# Altium schematic symbol library ICs_LDO.SchLib: 34 symbols
Pins are listed as number, name and electrical type; pins without a type are passive.

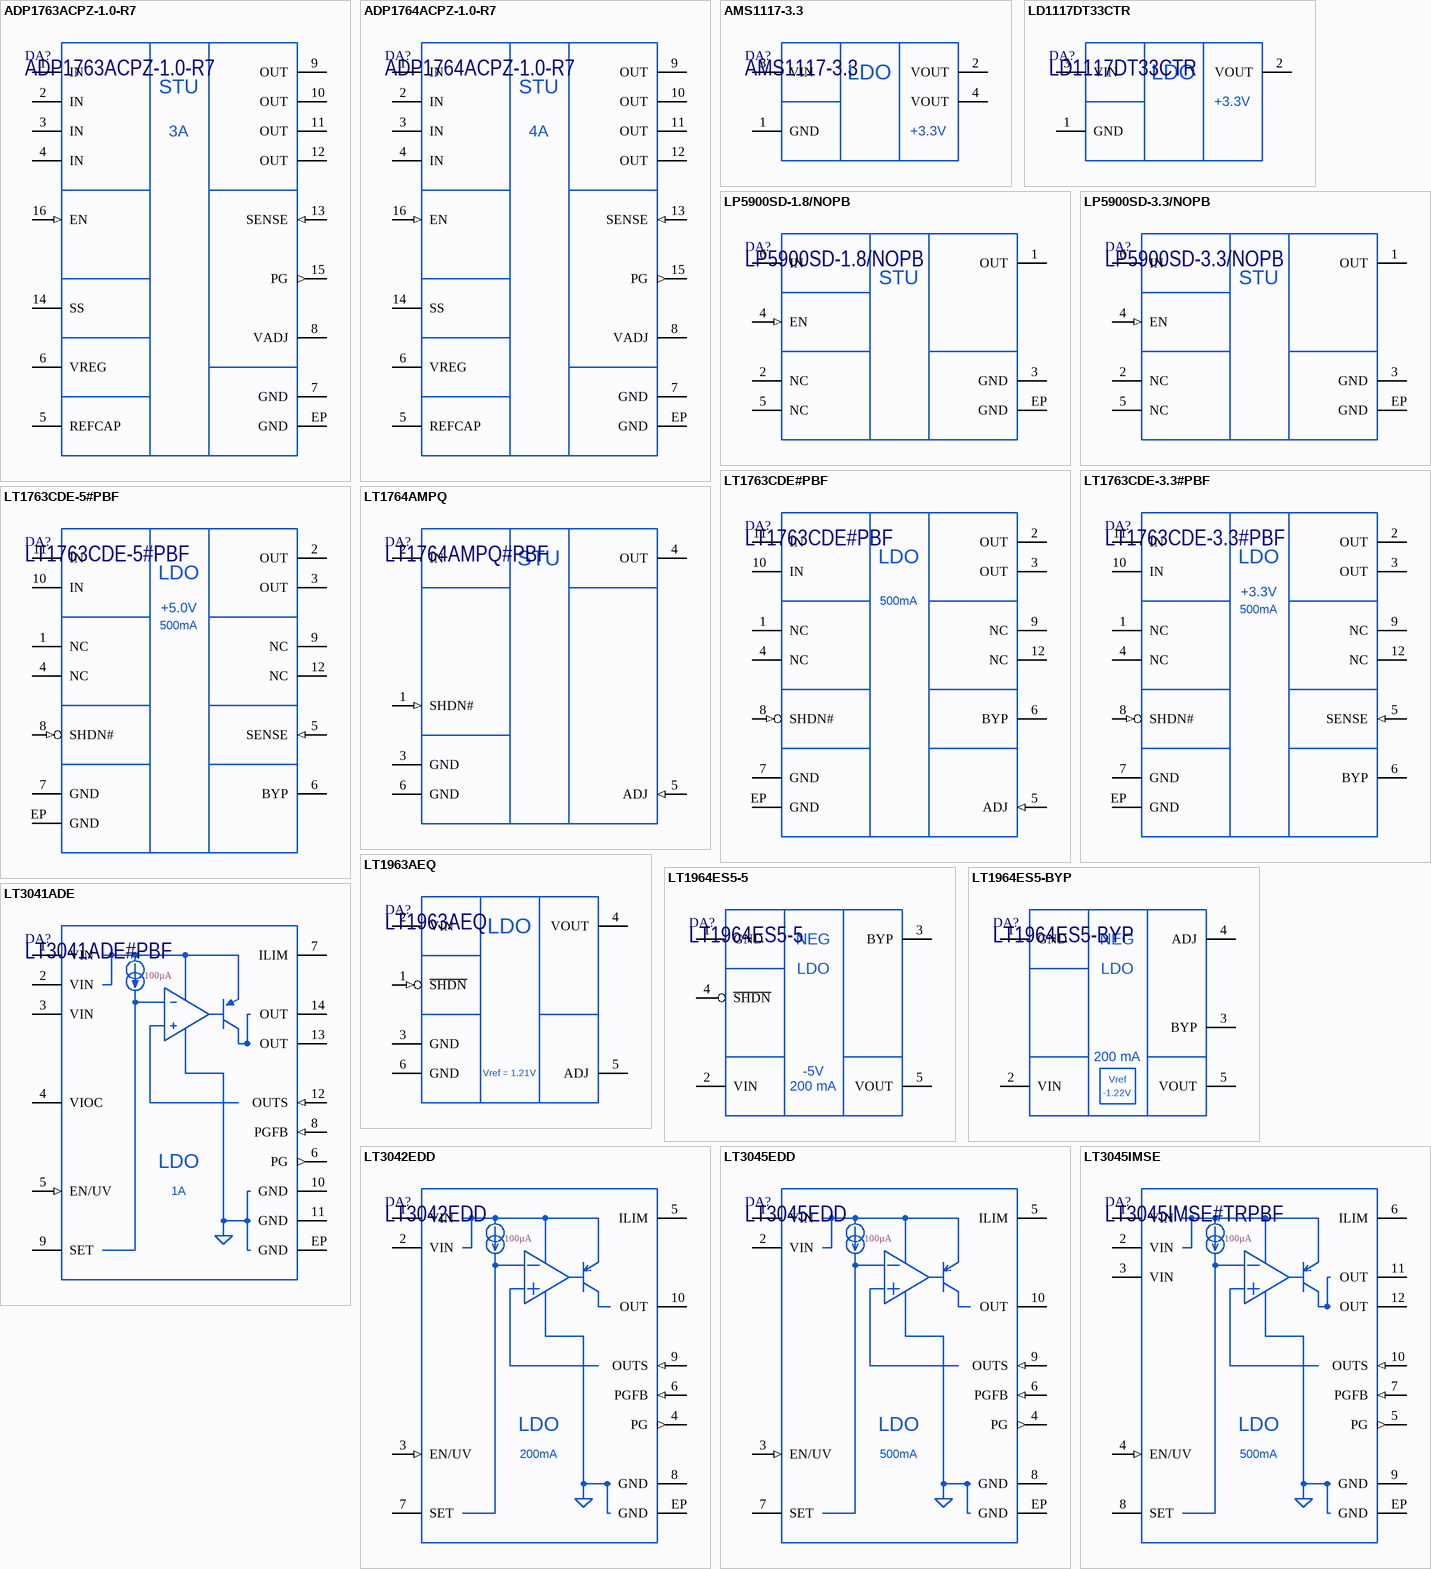
[diagram p0: symbols ADP1763ACPZ-1.0-R7 to LT3045IMSE]

## ADP1763ACPZ-1.0-R7
designator DA?
3 A, Low VIN, Low Noise, CMOS Linear Regulator; Manufacturer: Analog Devices; Marking: LS2; ItemType: IC; ItemSubType: LDO; Alternative1: ADP1763WACPZ-1.0-R7; Package: QFN-16; PartNumber: ADP1763ACPZ-1.0-R7; AltManufacturer1: Analog Devices; Mounting: SMD
footprint LFCSP-16(CP-16-22) (QFN, 16-Leads, Body 3x3mm, Pitch 0.50mm, Thermal Pad 1.50x1.50mm. Compliant to JEDEC standards MO-220-WEED-6)
pins: 1 IN (power), 2 IN (power), 3 IN (power), 4 IN (power), 5 REFCAP, 6 VREG, 7 GND, 8 VADJ, 9 OUT (power), 10 OUT (power), 11 OUT (power), 12 OUT (power), 13 SENSE (in), 14 SS, 15 PG (out), 16 EN (in), EP GND
text: STU; 3A

## ADP1764ACPZ-1.0-R7
designator DA?
4 A, Low VIN, Low Noise, CMOS Linear Regulator; Manufacturer: Analog Devices; Marking: LUZ; ItemType: IC; ItemSubType: LDO; Package: QFN-16; PartNumber: ADP1764ACPZ-1.0-R7; Mounting: SMD
footprint LFCSP-16(CP-16-48) (QFN, 16-Leads, Body 3x3mm, Pitch 0.50mm, Thermal Pad 1.70x1.70mm. Compliant to JEDEC standards MO-220-WEED-4)
pins: 1 IN (power), 2 IN (power), 3 IN (power), 4 IN (power), 5 REFCAP, 6 VREG, 7 GND, 8 VADJ, 9 OUT (power), 10 OUT (power), 11 OUT (power), 12 OUT (power), 13 SENSE (in), 14 SS, 15 PG (out), 16 EN (in), EP GND
text: STU; 4A

## AMS1117-3.3
designator DA?
800mA, LDO Regulator; Manufacturer: Advanced Monolithic Systems; ItemType: IC; PartNumber: AMS1117-3.3; Package: SOT-223; Marking: AMS1117; ItemSubType: LDO; Mounting: SMD
footprint SOT2234_TO261AA (SOT223, 4-Leads, Body 6.50x7.00mm (avg), Pitch 2.30mm)
pins: 1 GND, 2 VOUT (power), 3 VIN (power), 4 VOUT (power)
text: +3.3V

## LD1117DT33CTR
designator DA?
800mA, LDO Regulator; Manufacturer: STMicroelectronics; Marking: L1117; ItemType: IC; PartNumber: LD1117DT33CTR; Package: TO252AA; ItemSubType: LDO; Mounting: SMD
footprint DPAK_TO252AA (D-PAK, 3-Pads, Body 6.15x6.66mm (max))
pins: 1 GND, 2 VOUT (power), 3 VIN (power)
text: +3.3V

## LP5900SD-1.8/NOPB
designator DA?
150-mA Ultra-Low-Noise LDO for RF and Analog Circuits; Manufacturer: Texas Instruments; Marking: L17; ItemType: IC; Package: WSON-6; PartNumber: LP5900SD-1.8/NOPB; ItemSubType: LDO; Mounting: SMD
footprint WSON6_NGF0006A (WSON-6, 2.5mm x 2.2mm, TI case GF0006A)
pins: 1 OUT, 2 NC (hiz), 3 GND, 4 EN (in), 5 NC (hiz), 6 IN, EP GND
text: STU

## LP5900SD-3.3/NOPB
designator DA?
150-mA Ultra-Low-Noise LDO for RF and Analog Circuits; Manufacturer: Texas Instruments; Marking: L16; ItemType: IC; Package: WSON-6; PartNumber: LP5900SD-3.3/NOPB; ItemSubType: LDO; Mounting: SMD
footprint WSON6_NGF0006A (WSON-6, 2.5mm x 2.2mm, TI case GF0006A)
pins: 1 OUT, 2 NC (hiz), 3 GND, 4 EN (in), 5 NC (hiz), 6 IN, EP GND
text: STU

## LT1763CDE#PBF
designator DA?
500mA, Low Noise, LDO Micropower Regulators; Manufacturer: Analog Devices; Marking: 1763; ItemType: IC; Alternative1: LT1763CDE#TRPBF; Package: DFN-12; PartNumber: LT1763CDE#PBF; ItemSubType: LDO; AltManufacturer1: Analog Devices; Mounting: SMD
footprint DFN12_LT1763
pins: 1 NC (hiz), 2 OUT (power), 3 OUT (power), 4 NC (hiz), 5 ADJ (in), 6 BYP, 7 GND, 8 SHDN# (in), 9 NC (hiz), 10 IN (power), 11 IN (power), 12 NC (hiz), EP GND
text: 500mA

## LT1763CDE-3.3#PBF
designator DA?
500mA, Low Noise, LDO Micropower Regulators; Manufacturer: Analog Devices; Marking: 76333; ItemType: IC; Alternative1: LT1763CDE-3.3#TRPBF; Package: DFN-12; PartNumber: LT1763CDE-3.3#PBF; ItemSubType: LDO; AltManufacturer1: Analog Devices; Mounting: SMD
footprint DFN12_LT1763
pins: 1 NC (hiz), 2 OUT (power), 3 OUT (power), 4 NC (hiz), 5 SENSE (in), 6 BYP, 7 GND, 8 SHDN# (in), 9 NC (hiz), 10 IN (power), 11 IN (power), 12 NC (hiz), EP GND
text: +3.3V; 500mA

## LT1763CDE-5#PBF
designator DA?
500mA, Low Noise, LDO Micropower Regulators; Manufacturer: Analog Devices; Marking: 17635; ItemType: IC; Alternative1: LT1763CDE-5#TRPBF; Package: DFN-12; PartNumber: LT1763CDE-5#PBF; ItemSubType: LDO; AltManufacturer1: Analog Devices; Mounting: SMD
footprint DFN12_LT1763
pins: 1 NC (hiz), 2 OUT (power), 3 OUT (power), 4 NC (hiz), 5 SENSE (in), 6 BYP, 7 GND, 8 SHDN# (in), 9 NC (hiz), 10 IN (power), 11 IN (power), 12 NC (hiz), EP GND
text: +5.0V; 500mA

## LT1764AMPQ
designator DA?, comment LT1764AMPQ#PBF
3A, Fast Transient Response, Low Noise, LDO Regulators; Manufacturer: Analog Devices; ItemType: IC; PartNumber: LT1764AMPQ#PBF; Package: D2PAK5; ItemSubType: LDO; Mounting: SMD
footprint D2PAK5_TO263BA (D2-PAK, 6-Pads, Body 7.80x8.61mm (max))
pins: 1 SHDN# (in), 2 IN (power), 3 GND, 4 OUT (power), 5 ADJ (in), 6 GND
text: STU

## LT1963AEQ
designator DA?
1.5A, Low Noise, Fast Transient Response LDO Regulators; Manufacturer: Analog Devices; ItemType: IC; PartNumber: LT1963AEQ; Package: D2PAK5; Marking: LT1963AEQ; ItemSubType: LDO; Mounting: SMD
footprint D2PAK5_TO263BA (D2-PAK, 6-Pads, Body 7.80x8.61mm (max))
pins: 1 ~{SHDN} (in), 2 VIN (power), 3 GND, 4 VOUT (power), 5 ADJ, 6 GND
text: Vref = 1.21V

## LT1964ES5-5
designator DA?
200mA, Low Noise, Low Dropout Negative Micropower Regulator; Manufacturer: Analog Devices; Marking: LTVZ; ItemType: IC; ItemSubType: LDO; PartNumber: LT1964ES5-5; Package: SOT23-5; Mounting: SMD
footprint SOT235_JEDEC_MO178AA (SOT23, 5-Leads, Body 1.60x2.90mm, Pitch 0.95mm)
pins: 1 GND, 2 VIN (power), 3 BYP, 4 ~{SHDN}, 5 VOUT (power)
text: NEG; -5V; 200 mA

## LT1964ES5-BYP
designator DA?
200mA, Low Noise, Low Dropout Negative Micropower Regulator; Manufacturer: Analog Devices; Marking: LTVY; ItemType: IC; ItemSubType: LDO; PartNumber: LT1964ES5-BYP; Package: SOT23-5; Mounting: SMD
footprint SOT235_JEDEC_MO178AA (SOT23, 5-Leads, Body 1.60x2.90mm, Pitch 0.95mm)
pins: 1 GND, 2 VIN (power), 3 BYP, 4 ADJ, 5 VOUT (power)
text: NEG; 200 mA; -1.22V; Vref

## LT3041ADE
designator DA?, comment LT3041ADE#PBF
20 V, 1 A, Ultra-Low Noise, Ultra-High PSRR Linear Regulator with VIOC Control; Manufacturer: Analog Devices; Marking: 3041; ItemType: IC; ItemSubType: LDO; Package: DFN-14; PartNumber: LT3041ADE#PBF; Mounting: SMD
footprint DFN14_LT3041 (Power DFN 3mm x 4mm, 0.5mm pitch)
pins: 1 VIN (power), 2 VIN (power), 3 VIN (power), 4 VIOC, 5 EN/UV (in), 6 PG (out), 7 ILIM, 8 PGFB (in), 9 SET, 10 GND, 11 GND, 12 OUTS (in), 13 OUT (power), 14 OUT (power), EP GND
text: 100µA; 1A

## LT3042EDD
designator DA?
20V, 200mA, Ultralow Noise, Ultrahigh PSRR Linear Regulator; Manufacturer: Analog Devices; Marking: LGSJ; ItemType: IC; ItemSubType: LDO; Package: DFN-10; PartNumber: LT3042EDD; Mounting: SMD
footprint DFN10_LT3042 (Power DFN 3mm x 3mm, 0.5mm pitch. Reference LTC DWG # 05-08-1699 Rev C)
pins: 1 VIN (power), 2 VIN (power), 3 EN/UV (in), 4 PG (out), 5 ILIM, 6 PGFB (in), 7 SET, 8 GND, 9 OUTS (in), 10 OUT (power), EP GND
text: 100µA; 200mA

## LT3045EDD
designator DA?
20V, 500mA, Ultralow Noise, Ultrahigh PSRR Linear Regulator; Manufacturer: Analog Devices; Marking: LGYP; ItemType: IC; ItemSubType: LDO; Package: DFN-10; PartNumber: LT3045EDD; Mounting: SMD
footprint DFN10_LT3045 (Power DFN 3mm x 3mm, 0.5mm pitch)
pins: 1 VIN (power), 2 VIN (power), 3 EN/UV (in), 4 PG (out), 5 ILIM, 6 PGFB (in), 7 SET, 8 GND, 9 OUTS (in), 10 OUT (power), EP GND
text: 100µA; 500mA

## LT3045IMSE
designator DA?, comment LT3045IMSE#TRPBF
20V, 500mA, Ultralow Noise, Ultrahigh PSRR Linear Regulator; Manufacturer: Analog Devices; Marking: 3045; ItemType: IC; ItemSubType: LDO; Package: MSOP-12; PartNumber: LT3045IMSE#TRPBF; Mounting: SMD
footprint MSOP12_LT3045 (MSOP, 12-Leads, Body 3.00x4.00mm, Exposed Pad 1.651x2.845mm, Pitch 0.65mm. Reference LTC DWG # 05-08-1666 Rev G)
pins: 1 VIN (power), 2 VIN (power), 3 VIN (power), 4 EN/UV (in), 5 PG (out), 6 ILIM, 7 PGFB (in), 8 SET, 9 GND, 10 OUTS (in), 11 OUT (power), 12 OUT (power), EP GND
text: 100µA; 500mA

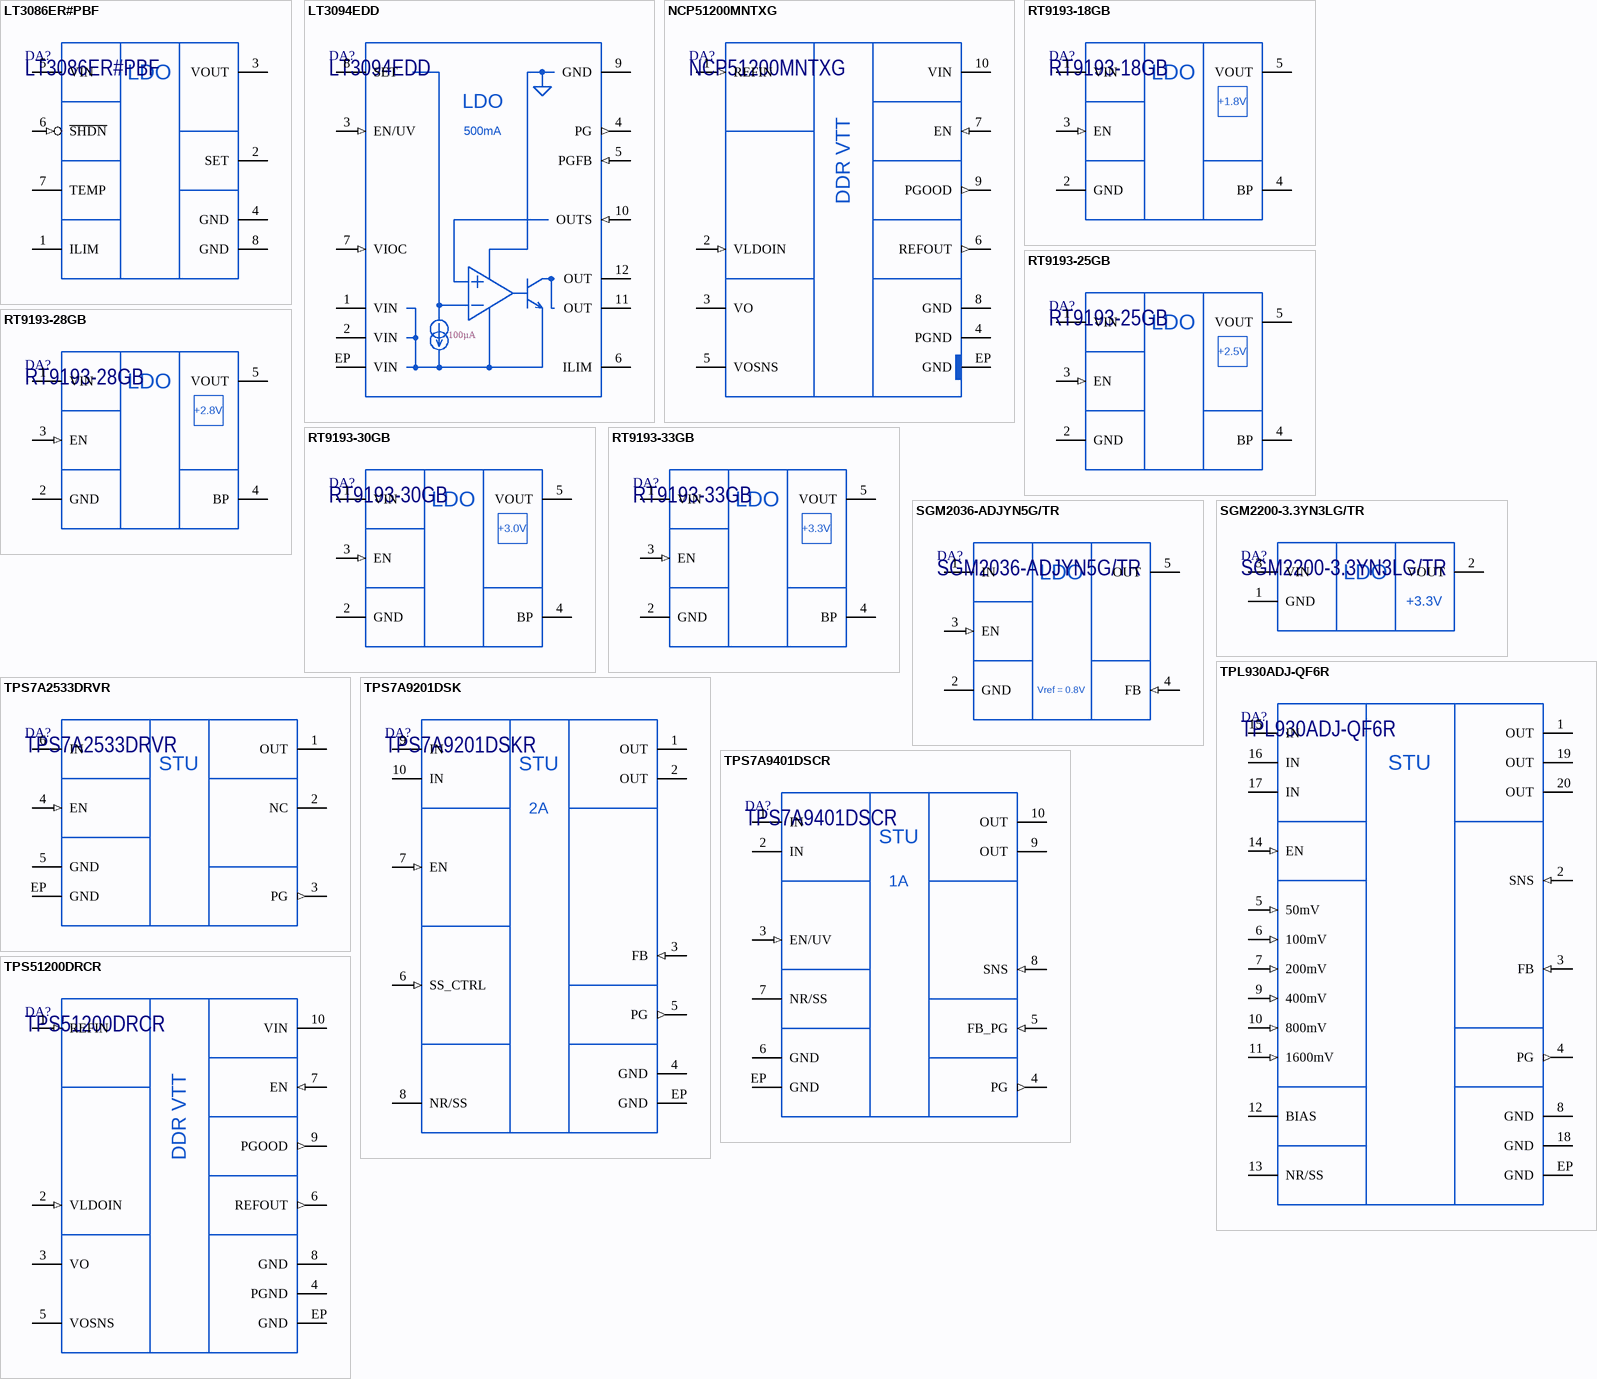
[diagram p1: symbols LT3086ER#PBF to TPS51200DRCR]

## LT3086ER#PBF
designator DA?
40V, 2.1A Low Dropout Adjustable Linear Regulator with Monitoring and Cable Drop Compensation; Manufacturer: Analog Devices; Marking: LT3086R; ItemType: IC; ItemSubType: LDO; PartNumber: LT3086ER#PBF; Package: D2PAK7; Mounting: SMD
footprint D2PAK7_TO263CA (D2-PAK, 8-Pads, Body 7.80x8.61mm (max))
pins: 1 ILIM, 2 SET, 3 VOUT (power), 4 GND, 5 VIN (power), 6 ~{SHDN} (in), 7 TEMP, 8 GND

## LT3094EDD
designator DA?
–20V, 500mA, Ultralow Noise, Ultrahigh PSRR Negative Linear Regulator; Manufacturer: Analog Devices; Marking: LHCC; ItemType: IC; ItemSubType: LDO; Package: DFN-12; PartNumber: LT3094EDD; Mounting: SMD
footprint DFN12_LT3094 (Power DFN 3mm x 3mm, 0.45mm pitch)
pins: 1 VIN (power), 2 VIN (power), 3 EN/UV (in), 4 PG (out), 5 PGFB (in), 6 ILIM, 7 VIOC (in), 8 SET, 9 GND, 10 OUTS (in), 11 OUT (power), 12 OUT (power), EP VIN (power)
text: 500mA; 100µA

## NCP51200MNTXG
designator DA?
Linear Voltage Regulator 3A for DDR1, DDR2, DDR3, LPDDR3, DDR4 VTT Termination; Manufacturer: ON Semiconductor; AltManufacturer1: Texas Instruments; Marking: 51200; ItemType: IC; ItemSubType: DDR Termination Regulator; Alternative1: TPS51200DRCT; Package: DFN-10; PartNumber: NCP51200MNTXG; Mounting: SMD
footprint DFN10_NCP51200 (DFN10, 3mm x 3mm)
pins: 1 REFIN (in), 2 VLDOIN (in), 3 VO (power), 4 PGND, 5 VOSNS (power), 6 REFOUT (out), 7 EN (in), 8 GND, 9 PGOOD (out), 10 VIN (power), EP GND
text: DDR VTT

## RT9193-18GB
designator DA?
300mA, Ultra-Low Noise, Ultra-Fast CMOS LDO Regulator; Manufacturer: Richtek; Marking: DC=xx; ItemType: IC; PartNumber: RT9193-18GB; Package: SOT23-5; ItemSubType: LDO; Mounting: SMD
footprint SOT235_JEDEC_MO178AA (SOT23, 5-Leads, Body 1.60x2.90mm, Pitch 0.95mm)
pins: 1 VIN (power), 2 GND, 3 EN (in), 4 BP, 5 VOUT (power)
text: +1.8V

## RT9193-25GB
designator DA?
300mA, Ultra-Low Noise, Ultra-Fast CMOS LDO Regulator; Manufacturer: Richtek; Marking: DH=xx; ItemType: IC; PartNumber: RT9193-25GB; Package: SOT23-5; ItemSubType: LDO; Mounting: SMD
footprint SOT235_JEDEC_MO178AA (SOT23, 5-Leads, Body 1.60x2.90mm, Pitch 0.95mm)
pins: 1 VIN (power), 2 GND, 3 EN (in), 4 BP, 5 VOUT (power)
text: +2.5V

## RT9193-28GB
designator DA?
300mA, Ultra-Low Noise, Ultra-Fast CMOS LDO Regulator; Manufacturer: Richtek; Marking: DJ=xx; ItemType: IC; PartNumber: RT9193-28GB; Package: SOT23-5; ItemSubType: LDO; Mounting: SMD
footprint SOT235_JEDEC_MO178AA (SOT23, 5-Leads, Body 1.60x2.90mm, Pitch 0.95mm)
pins: 1 VIN (power), 2 GND, 3 EN (in), 4 BP, 5 VOUT (power)
text: +2.8V

## RT9193-30GB
designator DA?
300mA, Ultra-Low Noise, Ultra-Fast CMOS LDO Regulator; Manufacturer: Richtek; Marking: DK=xx; ItemType: IC; PartNumber: RT9193-30GB; Package: SOT23-5; ItemSubType: LDO; Mounting: SMD
footprint SOT235_JEDEC_MO178AA (SOT23, 5-Leads, Body 1.60x2.90mm, Pitch 0.95mm)
pins: 1 VIN (power), 2 GND, 3 EN (in), 4 BP, 5 VOUT (power)
text: +3.0V

## RT9193-33GB
designator DA?
300mA, Ultra-Low Noise, Ultra-Fast CMOS LDO Regulator; Manufacturer: Richtek; Marking: DE=xx; ItemType: IC; PartNumber: RT9193-33GB; Package: SOT23-5; ItemSubType: LDO; Mounting: SMD
footprint SOT235_JEDEC_MO178AA (SOT23, 5-Leads, Body 1.60x2.90mm, Pitch 0.95mm)
pins: 1 VIN (power), 2 GND, 3 EN (in), 4 BP, 5 VOUT (power)
text: +3.3V

## SGM2036-ADJYN5G/TR
designator DA?
300mA, Low Power RF Linear Regulator; Manufacturer: SGMicro; Marking: SQ7XX; ItemType: IC; ItemSubType: LDO; PartNumber: SGM2036-ADJYN5G/TR; Package: SOT23-5; Mounting: SMD
footprint SOT235_JEDEC_MO178AA (SOT23, 5-Leads, Body 1.60x2.90mm, Pitch 0.95mm)
pins: 1 IN (power), 2 GND, 3 EN (in), 4 FB (in), 5 OUT (power)
text: Vref = 0.8V

## SGM2200-3.3YN3LG/TR
designator DA?
High Voltage Regulator; Manufacturer: SGMicro; Marking: SCCxx; ItemType: IC; ItemSubType: LDO; PartNumber: SGM2200-3.3YN3LG/TR; Package: SOT23-3; Mounting: SMD
footprint SOT23_TO236AB (TO236AB (SOT23-3), 3-Leads, Body 1.30x2.90mm, Pitch 0.95mm)
pins: 1 GND, 2 VOUT (power), 3 VIN (power)
text: +3.3V

## TPL930ADJ-QF6R
designator DA?
3A Output, High-PSRR, Low Noise LDO Regulator; Manufacturer: 3Peak; AltManufacturer1: Texas Instruments; Marking: L930A; ItemType: IC; Alternative1: TPS7A8500RGR; PartNumber: TPL930ADJ-QF6R; Package: QFN-20; ItemSubType: LDO; Mounting: SMD
footprint QFN20_TPL930 (QFN 3.5mm x 3.5mm, 0.5mm pitch)
pins: 1 OUT (power), 2 SNS (in), 3 FB (in), 4 PG (out), 5 50mV (in), 6 100mV (in), 7 200mV (in), 8 GND, 9 400mV (in), 10 800mV (in), 11 1600mV (in), 12 BIAS, 13 NR/SS, 14 EN (in), 15 IN (power), 16 IN (power), 17 IN (power), 18 GND, 19 OUT (power), 20 OUT (power), EP GND
text: STU

## TPS7A2533DRVR
designator DA?
300mA 18-V, Ultra-Low IQ, Low-Dropout Linear Voltage Regulator With Power-Good; Manufacturer: Texas Instruments; Marking: 1WSP; ItemType: IC; ItemSubType: LDO; Package: WSON-6; PartNumber: TPS7A2533DRVR; Mounting: SMD
footprint WSON6_DRV0006A (DFN 2mm x 2mm)
pins: 1 OUT, 2 NC (hiz), 3 PG (out), 4 EN (in), 5 GND, 6 IN, EP GND
text: STU

## TPS7A9201DSK
designator DA?, comment TPS7A9201DSKR
2A Low-Noise LDO Voltage Regulator; Manufacturer: Texas Instruments; Marking: 1CFP; ItemType: IC; Alternative1: TPS7A9201DSKT; Package: WSON-10; PartNumber: TPS7A9201DSKR; ItemSubType: LDO; AltManufacturer1: Texas Instruments; Mounting: SMD
footprint WSON10_DSK0010A (WSON, 10-Leads, Body 2.50x2.50mm, Pitch 0.5mm, TI case DSK0010A)
pins: 1 OUT (power), 2 OUT (power), 3 FB (in), 4 GND, 5 PG (out), 6 SS_CTRL (in), 7 EN (in), 8 NR/SS, 9 IN (power), 10 IN (power), EP GND
text: STU; 2A

## TPS7A9401DSCR
designator DA?
1-A, Ultra-Low Noise, Ultra-High PSRR, Low-Dropout Regulator; Manufacturer: Texas Instruments; Marking: 7A9401; ItemType: IC; ItemSubType: LDO; Package: WSON-10; PartNumber: TPS7A9401DSCR; Mounting: SMD
footprint WSON10_DSC0010J (WSON, 10-Leads, Body 3.00x3.00mm, Pitch 0.5mm, TI case DSC0010J)
pins: 1 IN (power), 2 IN (power), 3 EN/UV (in), 4 PG (out), 5 FB_PG (in), 6 GND, 7 NR/SS, 8 SNS (in), 9 OUT (power), 10 OUT (power), EP GND
text: STU; 1A

## TPS51200DRCR
designator DA?
Sink and Source DDR Termination Regulator; Manufacturer: Texas Instruments; Marking: 1200; ItemType: IC; Alternative1: TPS51200DRCT; Package: VSON-10; PartNumber: TPS51200DRCR; ItemSubType: DDR Termination Regulator; AltManufacturer1: Texas Instruments; Mounting: SMD
footprint VSON10_DRC0010J (VSON10, 3mm x 3mm TI Reference DRC0010J)
pins: 1 REFIN (in), 2 VLDOIN (in), 3 VO (power), 4 PGND, 5 VOSNS (power), 6 REFOUT (out), 7 EN (in), 8 GND, 9 PGOOD (out), 10 VIN (power), EP GND
text: DDR VTT

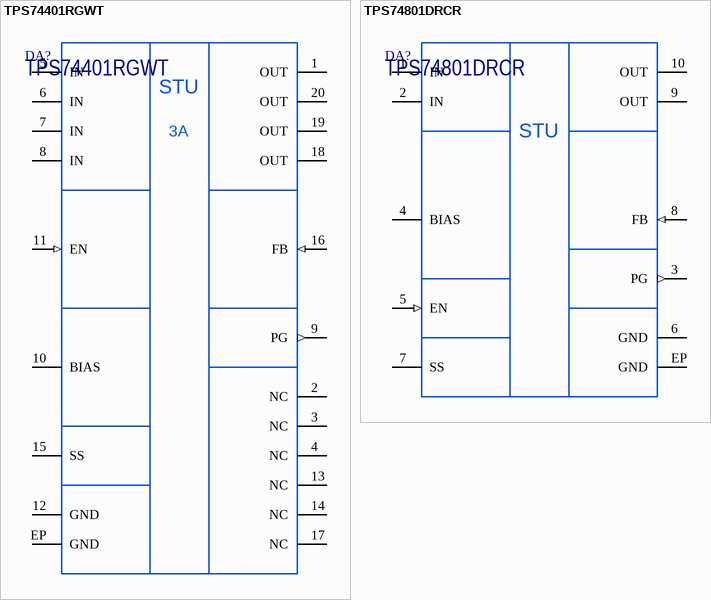
[diagram p2: symbols TPS74401RGWT to TPS74801DRCR]

## TPS74401RGWT
designator DA?
3.0A, Ultra-LDO With Programmable Soft-Start; Manufacturer: Texas Instruments; Marking: 74401; ItemType: IC; ItemSubType: LDO; Alternative1: TPS74401RGWR; Package: QFN-20; PartNumber: TPS74401RGWT; AltManufacturer1: Texas Instruments; Mounting: SMD
footprint QFN20_RGW0020A (QFN20, 5mm x 5mm TI Reference RGW0020A)
pins: 1 OUT (power), 2 NC, 3 NC, 4 NC, 5 IN (power), 6 IN (power), 7 IN (power), 8 IN (power), 9 PG (out), 10 BIAS, 11 EN (in), 12 GND, 13 NC, 14 NC, 15 SS, 16 FB (in), 17 NC, 18 OUT (power), 19 OUT (power), 20 OUT (power), EP GND
text: STU; 3A

## TPS74801DRCR
designator DA?
1.5-A Low-Dropout Linear Regulator With Programmable Soft-Start; Manufacturer: Texas Instruments; Marking: BTO; ItemType: IC; ItemSubType: LDO; Alternative1: TPS74801DRCT; Package: VSON-10; PartNumber: TPS74801DRCR; AltManufacturer1: Texas Instruments; Mounting: SMD
footprint VSON10_DRC0010J (VSON10, 3mm x 3mm TI Reference DRC0010J)
pins: 1 IN, 2 IN, 3 PG (out), 4 BIAS, 5 EN (in), 6 GND, 7 SS, 8 FB (in), 9 OUT, 10 OUT, EP GND
text: STU